# Altium footprint library ptc-ntc.PCBLIB: 11 footprints
Each footprint in its own frame and in the unit in brackets; x right, y up, seen from the top. Pads: shape width x height; smd on the part's side, far side on the other; paste and mask are expansions set on the pad; w line width, h text height; cw(c..) or ccw(c..) is an arc to the next point about the centre after c.
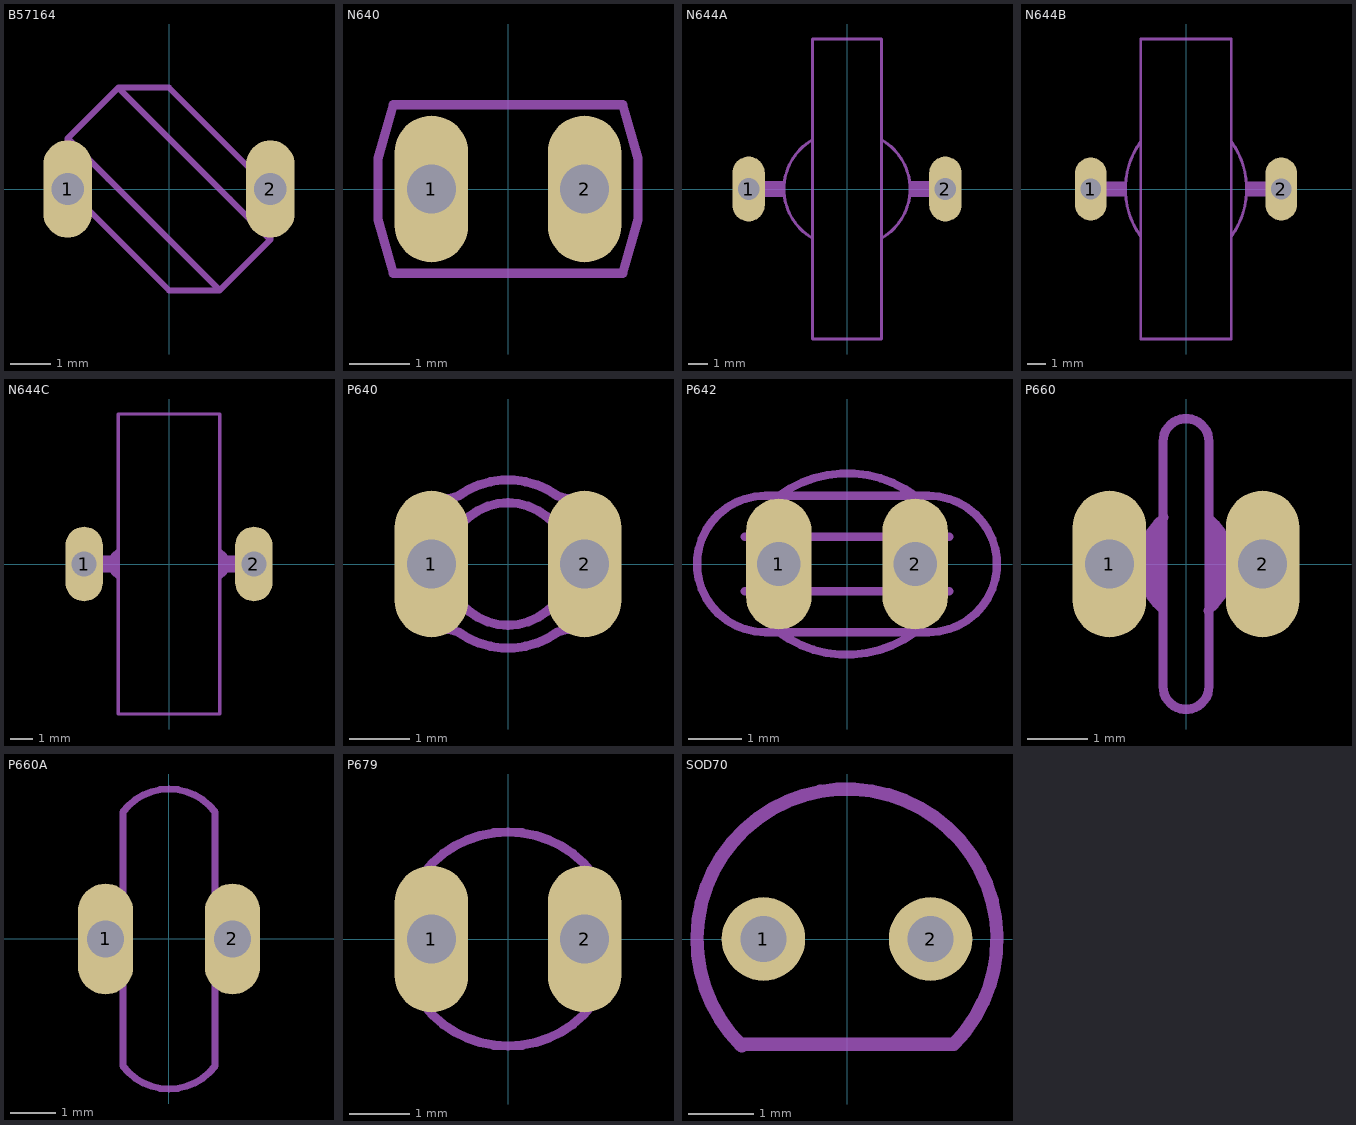
[diagram p0: the footprints below, top view; thin cyan lines are the x and y axes]

## B57164 [mil]
pads (2):
  oval 48x96 hole 32: 1(-100,0) 2(100,0)
Mechanical 2:
  lines w6: -100,50 -50,100 ; -75,-25 0,-100 50,-100 ; -60,10 50,-100 ; 60,-10 -50,100 ; 75,25 0,100 -50,100 ; 100,-50 50,-100
Mechanical 18:
  lines w6: -75,-25 -100,0 -100,50 -60,10 ; 60,-10 100,-50 100,0 75,25

## N640 [mil]
pads (2):
  oval 48x96 hole 32: 1(-50,0) 2(50,0)
Mechanical 2:
  lines w6: -85,-20 -75,-55 75,-55 85,-20 ; -85,20 -75,55 75,55 85,20
Mechanical 18:
  lines w6: -85,-20 -85,20 ; 85,-20 85,20

## N644A [mil]
pads (2):
  oval 66x132 hole 44: 1(-200,0) 2(200,0)
Mechanical 2:
  rectangle: 127,-16 152,16
  rectangle: -152,-16 -127,16
  lines w6: -70,-100 -70,100 ; -70,-100 -70,-305 70,-305 70,-100 ; -70,-100 cw(c-13.39,0) -70,100 ; -70,100 -70,305 70,305 70,100 ; 70,-100 70,100 ; 70,-100 ccw(c13.39,0) 70,100
Mechanical 18:
  lines w32: -200,0 -150,0 ; 150,0 200,0

## N644B [mil]
pads (2):
  oval 66x132 hole 44: 1(-200,0) 2(200,0)
Mechanical 2:
  rectangle: 127,-16 152,16
  rectangle: -152,-16 -127,16
  lines w6: -95,-100 -95,100 ; -95,-100 -95,-315 95,-315 95,-100 ; -95,-100 cw(c43.95,0) -95,100 ; -95,100 -95,315 95,315 95,100 ; 95,-100 95,100 ; 95,-100 ccw(c-43.96,0) 95,100
Mechanical 18:
  lines w32: -200,0 -155,0 ; 155,0 200,0

## N644C [mil]
pads (2):
  oval 66x132 hole 44: 1(-150,0) 2(150,0)
Mechanical 2:
  rectangle: 90,-16 103,16
  rectangle: -103,-16 -90,16
  lines w6: -95,-15 -90,-20 ; -95,15 -90,20 ; 95,-15 90,-20 ; 95,15 90,20 ; -90,-25 -100,-15 -100,15 -90,25 ; -90,-25 -90,-20 ; -90,-25 -90,-265 90,-265 90,-25 ; -90,-25 -90,25 ; -90,-20 -90,20 ; -90,20 -90,25 ; -90,25 -90,265 90,265 90,25 ; 90,-25 100,-15 100,15 90,25 ; 90,-25 90,-20 ; 90,-20 90,20 ; 90,20 90,25
Mechanical 18:
  lines w30: -150,0 -105,0 ; 105,0 150,0

## P640 [mil]
pads (2):
  oval 48x96 hole 32: 1(-50,0) 2(50,0)
Mechanical 2:
  lines w6: -46,-39.8 ccw(c-25,0) -32.5,-44.37 ccw(c0,0) 32.5,-44.37 ccw(c25,0) 46,-39.8 ; -46,39.8 cw(c-25,0) -32.5,44.37 cw(c0,0) 32.5,44.37 cw(c25,0) 46,39.8 ; -25,-31.22 ccw(c0,0) 25,-31.22 ; -25,31.22 cw(c0,0) 25,31.22
Mechanical 18:
  lines w6: -46,-39.8 cw(c-25,0) -46,39.8 ; -25,-31.22 cw(c0,0) -25,31.22 ; 25,-31.22 ccw(c0,0) 25,31.22 ; 46,-39.8 ccw(c25,0) 46,39.8

## P642 [mil]
pads (2):
  oval 48x96 hole 32: 1(-50,0) 2(50,0)
Mechanical 2:
  lines w6: -50.75,-49.43 ccw(c0,17) 50,-50 ; -50,50 cw(c0,-17) 50.75,49.43 ; -60,-50 60,-50 ccw(c60,0) 60,50 -60,50 ccw(c-60,0) -60,-50
Mechanical 18:
  lines w6: -75,-20 75,-20 ; -75,20 75,20

## P660 [mil]
pads (2):
  oval 48x96 hole 32: 1(-50,0) 2(50,0)
Mechanical 2:
  lines w6: -15,-25 -15,-80 ccw(c0,-80) 15,-80 15,-25 ; -15,25 -15,80 cw(c0,80) 15,80 15,25
Mechanical 18:
  lines w6: -15,-30 cw(c10,0) -14.39,30.49 ; -15,-25 -15,25 ; 14.39,-30.49 ccw(c-10,0) 15,30 ; 15,-25 15,25
  lines w10: -20,-20 -20,20 ; 20,-20 20,20
  lines w24: -50,0 -25,0 ; 25,0 50,0

## P660A [mil]
pads (2):
  oval 48x96 hole 32: 1(-55,0) 2(55,0)
Mechanical 2:
  lines w6: -40,-40 -40,-110 ccw(c0,-80) 40,-110 40,-40 ; -40,40 -40,110 cw(c0,80) 40,110 40,40
Mechanical 18:
  lines w6: -50,-30 cw(c-25,0) -49.39,30.49 ; -40,-40 -40,40 ; 40,-40 40,40 ; 49.39,-30.49 ccw(c25,0) 50,30
  lines w10: -55,-20 -55,0 -55,20 ; -50,-25 -45,-30 -45,30 -50,25 ; 50,-25 45,-30 45,30 50,25 ; 55,-20 55,0 55,20
  lines w24: -60,0 -55,0 ; 55,0 60,0

## P679 [mil]
pads (2):
  oval 48x96 hole 32: 1(-50,0) 2(50,0)
Mechanical 2:
  lines w6: -60.46,-35.27 ccw(c0,0) 0,-70 ccw(c0,0) 60.46,-35.27 ; -60.46,35.27 cw(c0,0) 0,70 cw(c0,0) 60.46,35.27
Mechanical 18:
  lines w6: -59.61,36.69 ccw(c0.01,-0.01) -70,0 ccw(c-0.01,-0.01) -59.06,-37.58 ; 59.06,37.58 cw(c0.01,0.01) 70,0 cw(c-0.01,0.01) 59.61,-36.69

## SOD70 [mil]
pads (2):
  round 50 hole 27.56: 1(-50,0) 2(50,0)
Mechanical 2:
  lines w8: -62.99,-63.98 cw(c0,0) 63.98,-62.99 ; -62.99,-62.99 62.99,-62.99